# EAGLE library part IMU-LSM9DS1TR (library quadparts_josh)
LSM9DS1TR 9-axis IMU
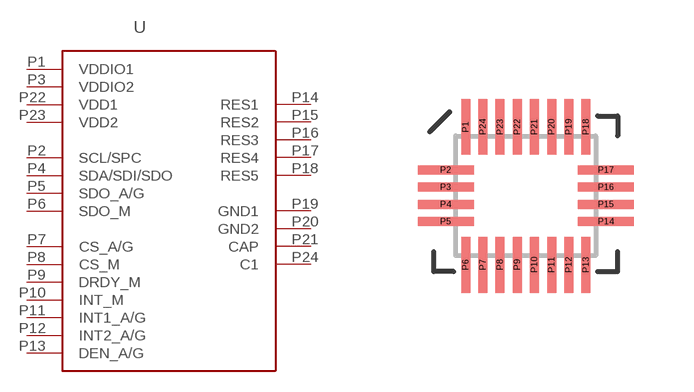
[diagram p0: symbol with the pads of IMU-LSM9DS1TR; footprint IMU-LSM9DS1TR]

Designator prefix U

## IMU-LSM9DS1TR (CREATOR: Joshua Crook; DIST: Digikey; DISTPN: 160-1178-1-ND; MFR: Lite-On Inc; MPN: LTST-C170EKT)  [IMU-LSM9DS1TR]
P1  VDDIO1
P2  SCL/SPC
P3  VDDIO2
P4  SDA/SDI/SDO
P5  SDO_A/G
P6  SDO_M
P7  CS_A/G
P8  CS_M
P9  DRDY_M
P10  INT_M
P11  INT1_A/G
P12  INT2_A/G
P13  DEN_A/G
P14  RES1
P15  RES2
P16  RES3
P17  RES4
P18  RES5
P19  GND1
P20  GND2
P21  CAP
P22  VDD1
P23  VDD2
P24  C1

## Footprint IMU-LSM9DS1TR (pad centres in mm)
LSM9DS1TR 9-axis IMU
smd 0.225 x 1.4: P1 -1.505,1.725; P6 -1.505,-1.725; P7 -1.075,-1.725; P8 -0.645,-1.725; P9 -0.215,-1.725; P10 0.215,-1.725; P11 0.645,-1.725; P12 1.075,-1.725; P13 1.505,-1.725; P18 1.505,1.725; P19 1.075,1.725; P20 0.645,1.725; P21 0.215,1.725; P22 -0.215,1.725; P23 -0.645,1.725; P24 -1.075,1.725
smd 1.4 x 0.225: P2 -2.005,0.645; P3 -2.005,0.215; P4 -2.005,-0.215; P5 -2.005,-0.645; P14 2.005,-0.645; P15 2.005,-0.215; P16 2.005,0.215; P17 2.005,0.645